# Altium footprint library DHVQFN16.PcbLib: 1 footprints
Each footprint in its own frame and in the unit in brackets; x right, y up, seen from the top. Pads: shape width x height; smd on the part's side, far side on the other; paste and mask are expansions set on the pad; w line width, h text height; cw(c..) or ccw(c..) is an arc to the next point about the centre after c.
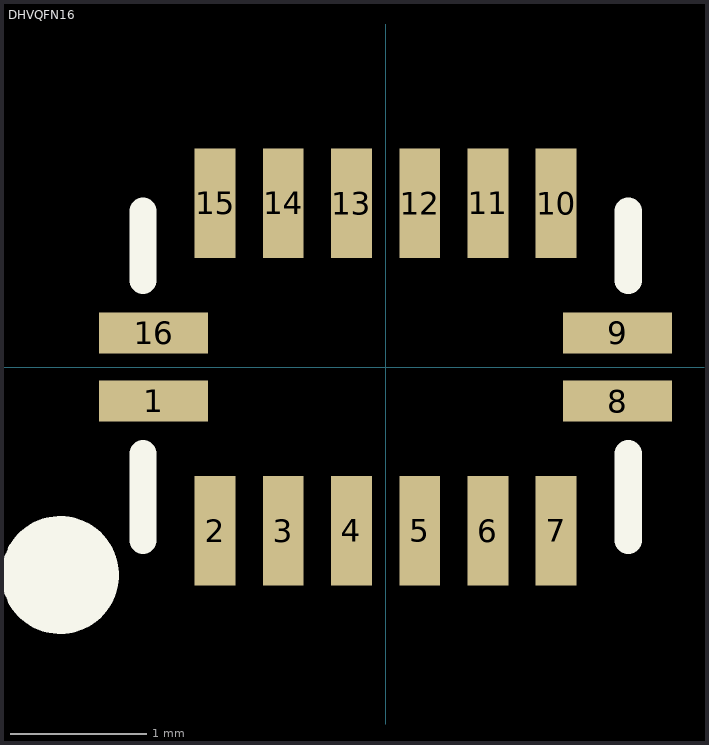
[diagram p0: the footprint, top view; thin cyan lines are the x and y axes]

## DHVQFN16 [mm]
pads (16):
  rect 0.8x0.3 smd: 1(-1.7,-0.25) 8(1.7,-0.25) 9(1.7,0.25) 16(-1.7,0.25)
  rect 0.3x0.8 smd: 2(-1.25,-1.2) 3(-0.75,-1.2) 4(-0.25,-1.2) 5(0.25,-1.2) 6(0.75,-1.2) 7(1.25,-1.2) 10(1.25,1.2) 11(0.75,1.2) 12(0.25,1.2) 13(-0.25,1.2) 14(-0.75,1.2) 15(-1.25,1.2)
Top Overlay:
  circle w0.508: c-2.386,-1.524 r0.178
  lines w0.2: -1.778,-1.27 -1.778,-0.635 ; -1.778,0.635 -1.778,1.143 ; 1.778,-1.27 1.778,-0.635 ; 1.778,0.635 1.778,1.143
3D body: height 0.5, standoff 0, extent -1.905,-1.397 1.905,1.27